# Altium footprint library SchLib_Recinto.PcbLib: 64 footprints (part 1 of 4)
Each footprint in its own frame and in the unit in brackets; x right, y up, seen from the top. Pads: shape width x height; smd on the part's side, far side on the other; paste and mask are expansions set on the pad; w line width, h text height; cw(c..) or ccw(c..) is an arc to the next point about the centre after c.
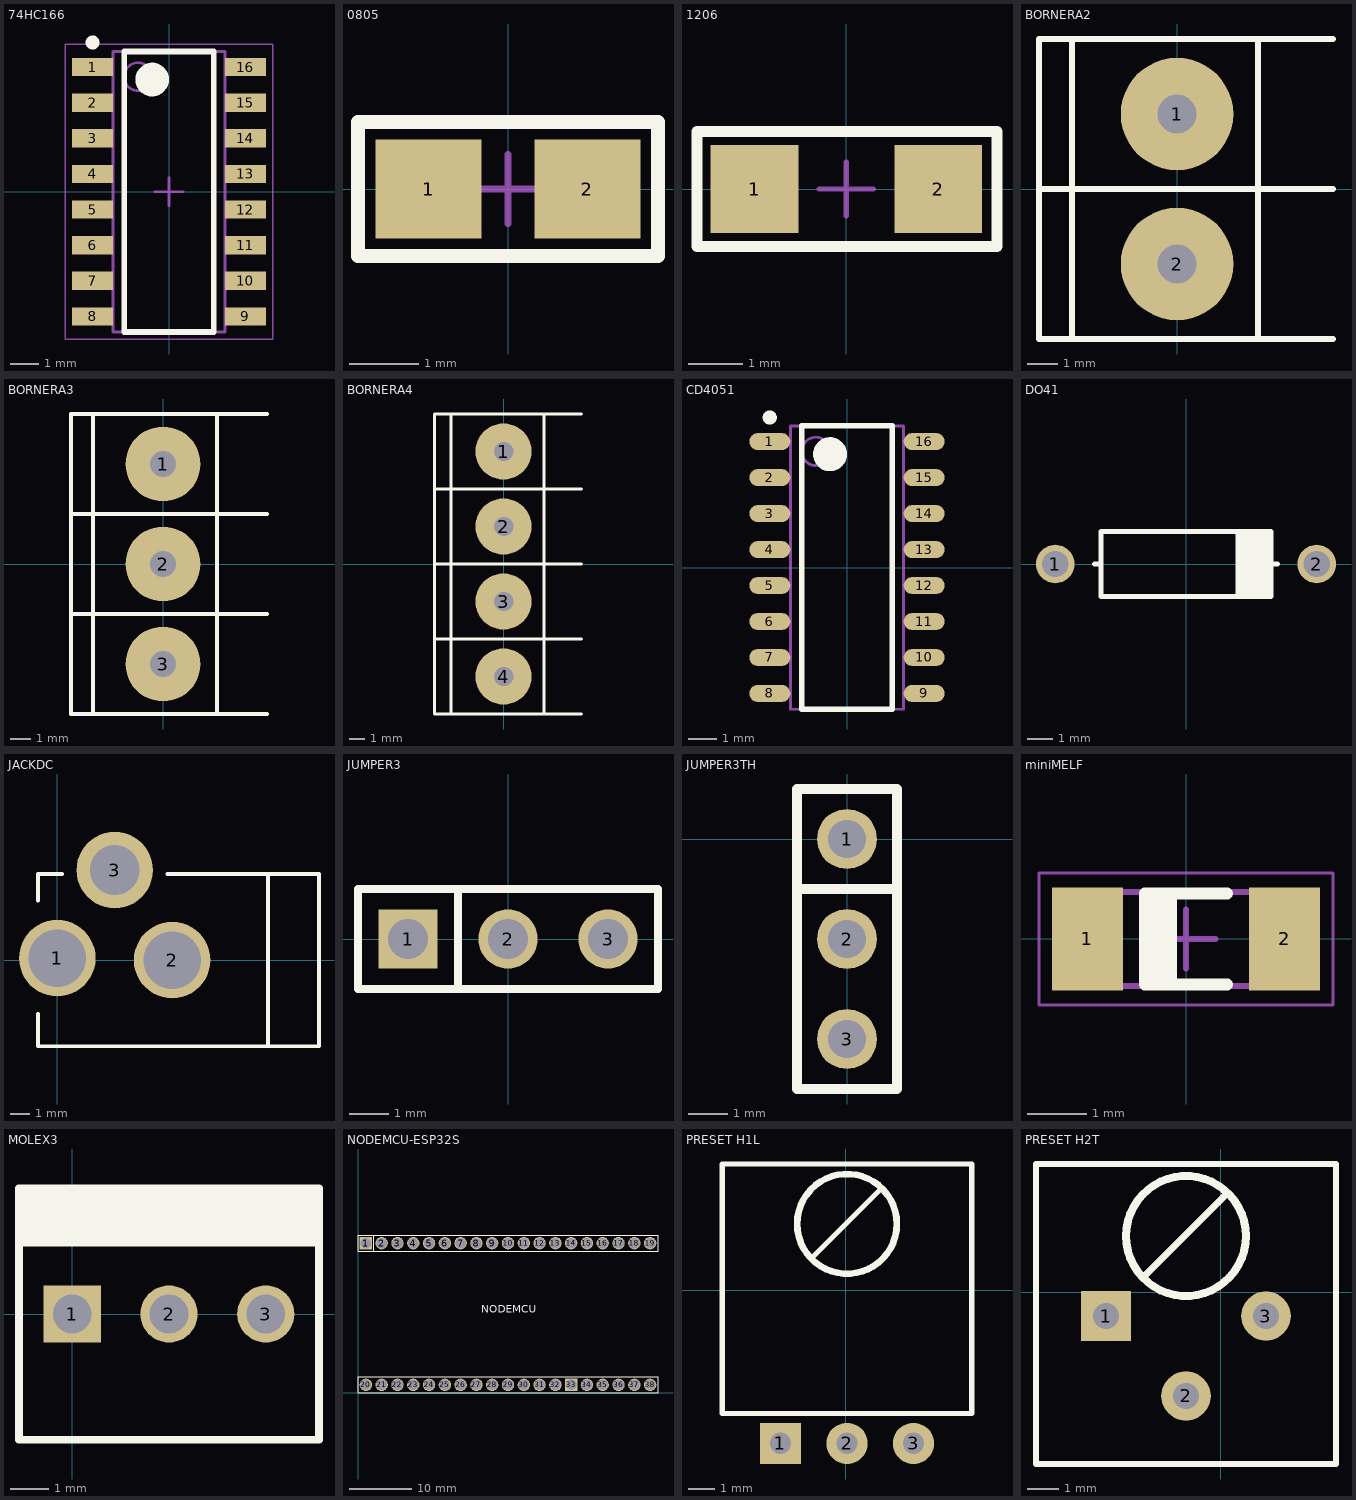
[diagram p0: the footprints below, top view; thin cyan lines are the x and y axes]

## 74HC166 [mm] "SOP, 16-Leads, Body 9,90x3,90mm, Pitch 1,27mm, IPC Medium Density"
height 1.75
pads (16):
  rect 1.45x0.65 smd: 1(-2.725,4.445) 2(-2.725,3.175) 3(-2.725,1.905) 4(-2.725,0.635) 5(-2.725,-0.635) 6(-2.725,-1.905) 7(-2.725,-3.175) 8(-2.725,-4.445) 9(2.725,-4.445) 10(2.725,-3.175) 11(2.725,-1.905) 12(2.725,-0.635) 13(2.725,0.635) 14(2.725,1.905) 15(2.725,3.175) 16(2.725,4.445)
Top Overlay:
  circle w0.25: c-2.725,5.32 r0.125
  circle w0.6: c-0.6,4 r0.3
  lines w0.2: -1.6,-5 -1.6,5 1.6,5 1.6,-5 -1.6,-5
Mechanical 13:
  circle w0.1: c-1.1,4.1 r0.5
  lines w0.1: -2,-5 -2,5 2,5 2,-5 -2,-5
Mechanical 15:
  lines w0.05: -3.7,-5.25 -3.7,5.25 3.7,5.25 3.7,-5.25 -3.7,-5.25
  lines w0.1: -0.5,0 0.5,0 ; 0,-0.5 0,0.5
3D body: height 1.75, standoff 0.1, extent -2,-5 2,5

## 0805 [mil] "Pasivo 0805"
height 27.56
pads (2):
  rect 60x56 smd: 1(-45,0) 2(45,0)
Top Overlay:
  lines w7.87: -85,-38 85,-38 85,38 -85,38 -85,-38
Mechanical 15:
  lines w3.94: -19.69,0 19.68,0 ; 0,-19.68 0,19.68
3D body "0805.STEP": height 15.35, standoff -0.79, extent -39.5,-24.5 39.24,24.71

## 1206 [mil] "Pasivo 1206"
height 27.56
pads (2):
  rect 64x64 smd: 1(-67,0) 2(67,0)
Top Overlay:
  lines w7.87: -109,-42 110,-42 110,42 -109,42 -109,-42
Mechanical 15:
  lines w3.94: -19.68,0 19.69,0 ; 0,-19.68 0,19.69
3D body "1206.STEP": height 19.68, standoff -0.39, extent -62.5,-31.5 63.48,31.49

## BORNERA2 [mm] "Bornera con Tornillos 5mm separación"
pads (2):
  round 3.75 hole 1.3: 1(0,2.5) 2(0,-2.5)
Top Overlay:
  lines w0.2: -4.6,0 5.2,0 ; -3.5,-5 -3.5,5 ; 2.7,-5 2.7,5 ; 5.2,-5 -4.6,-5 -4.6,5 5.2,5
3D body "BORNERA_2.step": height 10, standoff -2.28, extent -3.763,-4.892 3.937,5.607

## BORNERA3 [mm] "Bornera con Tornillos 5mm separación"
pads (3):
  round 3.75 hole 1.3: 1(0,5) 2(0,0) 3(0,-5)
Top Overlay:
  lines w0.2: -4.6,-2.5 5.2,-2.5 ; -4.6,2.5 5.2,2.5 ; -3.5,-7.5 -3.5,7.5 ; 2.7,-7.5 2.7,7.5 ; 5.2,-7.5 -4.6,-7.5 -4.6,7.5 5.2,7.5
3D body "BORNERA_3.step": height 10.05, standoff -2.24, extent -3.763,-7.392 3.937,8.107

## BORNERA4 [mm] "Bornera con Tornillos 5mm separación"
pads (4):
  round 3.75 hole 1.3: 1(0,7.5) 2(0,2.5) 3(0,-2.5) 4(0,-7.5)
Top Overlay:
  lines w0.2: -4.6,-5 5.2,-5 ; -4.6,0 5.2,0 ; -4.6,5 5.2,5 ; -3.5,-10 -3.5,10 ; 2.7,-10 2.7,10 ; 5.2,-10 -4.6,-10 -4.6,10 5.2,10
3D body "BORNERA_2.step": height 10, standoff -2.28, extent -3.763,-9.892 3.937,0.607
3D body "BORNERA_2.step": height 10, standoff -2.28, extent -3.763,0.108 3.937,10.607

## CD4051 [mm] "SOP, 16-Leads, Body 9,90x3,90mm, Pitch 1,27mm, IPC Medium Density"
height 1.75
pads (16):
  oval 1.45x0.6 smd: 1(-2.725,4.445) 2(-2.725,3.175) 3(-2.725,1.905) 4(-2.725,0.635) 5(-2.725,-0.635) 6(-2.725,-1.905) 7(-2.725,-3.175) 8(-2.725,-4.445) 9(2.725,-4.445) 10(2.725,-3.175) 11(2.725,-1.905) 12(2.725,-0.635) 13(2.725,0.635) 14(2.725,1.905) 15(2.725,3.175) 16(2.725,4.445)
Top Overlay:
  circle w0.6: c-0.6,4 r0.3
  circle w0.25: c-2.725,5.295 r0.125
  lines w0.2: -1.6,-5 1.6,-5 1.6,5 -1.6,5 -1.6,-5
Mechanical 13:
  circle w0.1: c-1.1,4.1 r0.5
  lines w0.1: -2,-5 2,-5 2,5 -2,5 -2,-5
3D body: height 1.75, standoff 0.1, extent -2,-5 2,5

## DO41 [mm]
pads (2):
  round 1.5 hole 1.016: 1(-5.08,0) 2(5.08,0)
Top Overlay:
  rectangle: 2.032,-1.27 3.302,1.27
  lines w0.2: -3.556,0 -3.302,0 ; 2.032,-1.27 2.032,1.27 ; 3.302,0 3.556,0 ; -3.302,-1.27 -3.302,1.27 3.302,1.27 3.302,-1.27 -3.302,-1.27
3D body "DO41.step": height 2.03, standoff -3.06, extent -5.461,-1.194 5.461,1.372

## JACKDC [mm]
pads (3):
  round 4 hole 3: 1(0,0.102) 2(6,0)
  round 4 hole 2.6: 3(3,4.7)
Top Overlay:
  lines w0.2: -1,-2.81 -1,-4.5 13.67,-4.5 ; -1,3.099 -1,4.5 0.254,4.5 ; 5.746,4.5 13.67,4.5 ; 11,-4.5 11,4.5 ; 13.67,-4.496 13.67,4.504
3D body "JACKDC.step": height 11, standoff -3.5, extent -0.157,-4.496 13.67,5.01

## JUMPER3 [mm]
pads (3):
  rect 1.5x1.5 hole 1.016: 1(-2.54,0)
  round 1.5 hole 1.016: 2(0,0) 3(2.54,0)
Top Overlay:
  lines w0.2: -1.27,-1.27 -1.27,1.27 ; -3.81,-1.27 3.81,-1.27 3.81,1.27 -3.81,1.27 -3.81,-1.27
3D body "User Library-Mini Jumper.step": height 16.15, standoff 2.65, extent -3.795,-1.12 1.255,1.27
3D body "SIP3.step": height 8.38, standoff -2.54, extent -3.81,-1.295 3.81,1.245

## JUMPER3TH [mil]
pads (3):
  round 60 hole 38: 1(0,0) 2(0,-100) 3(0,-200)
Top Overlay:
  lines w10: -50,-250 -50,50 ; -49.21,-250 50,-250 50,50 -49.21,50 ; -49.21,-50 50,-50
3D body "SIP3.step": height 330, standoff -100, extent -49,-250 51,50

## miniMELF [mm] "MELF Diode, 2-Leads, Body 3,50x1,50mm, IPC Medium Density"
height 1.6
pads (2):
  rect 1.2x1.75 smd: 1(-1.675,0) 2(1.675,0)
Top Overlay:
  rectangle: -0.7,-0.775 -0.15,0.775
  lines w0.2: 0.7,-0.775 -0.7,-0.775 -0.7,0.775 0.7,0.775
Mechanical 13:
  lines w0.1: -1.85,-0.8 1.85,-0.8 1.85,0.8 -1.85,0.8 -1.85,-0.8
Mechanical 15:
  lines w0.05: -2.5,-1.125 2.5,-1.125 2.5,1.125 -2.5,1.125 -2.5,-1.125
  lines w0.1: -0.5,0 0.5,0 ; 0,-0.5 0,0.5
3D body: height 1.6, standoff 0, extent 1.38,-0.8 1.85,0.8
3D body: height 1.59, standoff 0.04, extent -1.38,-0.77 1.38,0.77
3D body: height 1.58, standoff 0.04, extent -0.78,-0.771 -0.18,0.771
3D body: height 1.6, standoff 0, extent -1.85,-0.8 -1.38,0.8

## MOLEX3 [mm]
pads (3):
  rect 1.5x1.5 hole 1.016: 1(0,0)
  round 1.5 hole 1.016: 2(2.54,0) 3(5.08,0)
Top Overlay:
  rectangle: -1.397,1.778 6.477,3.302
  lines w0.2: -1.397,-3.302 6.477,-3.302 6.477,3.302 -1.397,3.302 -1.397,-3.302
3D body "MOLEX3.STEP": height 10.74, standoff -3.48, extent -1.27,-3.175 6.35,3.175

## NODEMCU-ESP32S [mm]
pads (38):
  rect 2x2 hole 1.7: 1(1.27,24.057) 33(34.29,1.27)
  round 2 hole 1.7: 2(3.81,24.057) 3(6.35,24.057) 4(8.89,24.057) 5(11.43,24.057) 6(13.97,24.057) 7(16.51,24.057) 8(19.05,24.057) 9(21.59,24.057) 10(24.13,24.057) 11(26.67,24.057) 12(29.21,24.057) 13(31.75,24.057) 14(34.29,24.057) 15(36.83,24.057) 16(39.37,24.057) 17(41.91,24.057) 18(44.45,24.057) 19(46.99,24.057) 20(1.27,1.27) 21(3.81,1.27) 22(6.35,1.27) 23(8.89,1.27) 24(11.43,1.27) 25(13.97,1.27) 26(16.51,1.27) 27(19.05,1.27) 28(21.59,1.27) 29(24.13,1.27) 30(26.67,1.27) 31(29.21,1.27) 32(31.75,1.27) 34(36.83,1.27) 35(39.37,1.27) 36(41.91,1.27) 37(44.45,1.27) 38(46.99,1.27)
Top Overlay:
  lines w0.2: 2.54,22.787 2.54,25.327 ; 0,0 48.26,0 48.26,0.635 48.26,1.905 48.26,2.54 0,2.54 0,0 ; 0,22.787 48.26,22.787 48.26,23.422 48.26,24.692 48.26,25.327 0,25.327 0,22.787
  text "NODEMCU" at 19.813,12.853 h1.22
3D body "SIP3.step": height 8.38, standoff -2.54, extent 0,-0.025 7.62,2.515
3D body "SIP3.step": height 8.38, standoff -2.54, extent 7.62,-0.025 15.24,2.515
3D body "SIP4.step": height 8.38, standoff -2.54, extent 15.24,0 25.4,2.54
3D body "SIP3.step": height 8.38, standoff -2.54, extent 25.4,-0.025 33.02,2.515
3D body "SIP3.step": height 8.38, standoff -2.54, extent 33.02,-0.025 40.64,2.515
3D body "SIP3.step": height 8.38, standoff -2.54, extent 40.64,-0.025 48.26,2.515
3D body "SIP3.step": height 8.38, standoff -2.54, extent 0,22.762 7.62,25.302
3D body "SIP3.step": height 8.38, standoff -2.54, extent 7.62,22.762 15.24,25.302
3D body "SIP4.step": height 8.38, standoff -2.54, extent 15.24,22.787 25.4,25.327
3D body "SIP3.step": height 8.38, standoff -2.54, extent 25.4,22.762 33.02,25.302
3D body "SIP3.step": height 8.38, standoff -2.54, extent 33.02,22.762 40.64,25.302
3D body "SIP3.step": height 8.38, standoff -2.54, extent 40.64,22.762 48.26,25.302

## PRESET H1L [mil]
pads (3):
  rect 62x62 hole 32: 1(-98.43,-230)
  round 62 hole 32: 2(1.57,-230) 3(101.57,-230)
Top Overlay:
  circle w10: c1.57,100 r75
  lines w7.87: -49.7,50.59 50.3,150.59 ; -185.93,-185 189.07,-185 189.07,190 -185.93,190 -185.93,-185
3D body "PRESET HORIZONTAL.step": height 196.85, standoff -190.16, extent -190,-187.6 185.2,187.6

## PRESET H2T [mil]
pads (3):
  rect 62x62 hole 32: 1(-143.42,-30)
  round 62 hole 32: 2(-43.43,-130) 3(56.57,-30)
Top Overlay:
  circle w10: c-43.43,70 r75
  lines w7.87: -94.7,20.59 5.3,120.59 ; -230.93,-215 144.07,-215 144.07,160 -230.93,160 -230.93,-215
3D body "PRESET HORIZONTAL.step": height 196.85, standoff -190.16, extent -235,-217.6 140.2,157.6